# Altium footprint library TERM_3.50MM_2x1_0.PcbLib: 1 footprints
Each footprint in its own frame and in the unit in brackets; x right, y up, seen from the top. Pads: shape width x height; smd on the part's side, far side on the other; paste and mask are expansions set on the pad; w line width, h text height; cw(c..) or ccw(c..) is an arc to the next point about the centre after c.
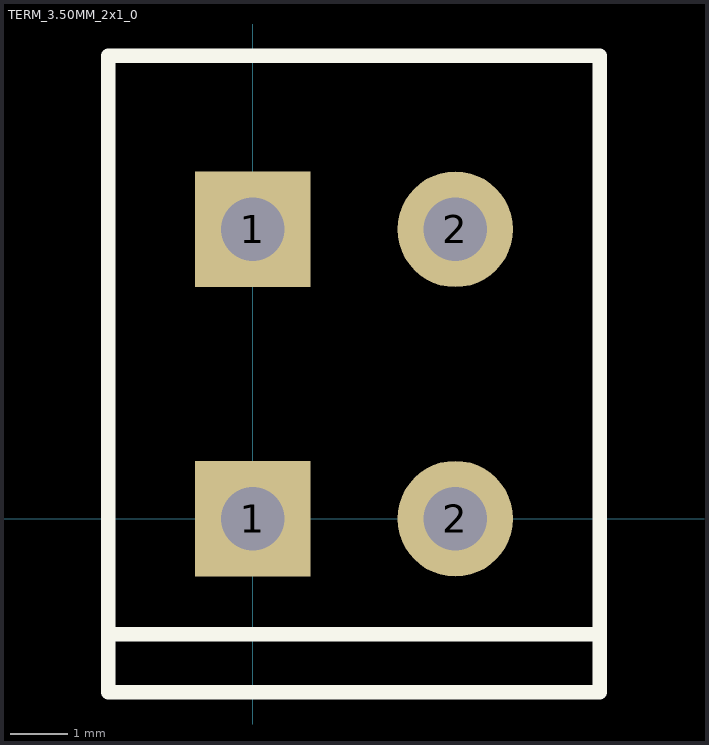
[diagram p0: the footprint, top view; thin cyan lines are the x and y axes]

## TERM_3.50MM_2x1_0 [mm] "Terminal Block, 3.5mm pitch"
pads (4):
  rect 2x2 hole 1.1: 1(0,0) 1(0,5)
  round 2 hole 1.1: 2(3.5,0) 2(3.5,5)
Top Overlay:
  lines w0.254: -2.5,-2 6,-2 ; -2.5,-3 0,-3 6,-3 6,8 -2.5,8 -2.5,-3
3D body "1861933.SLDPRT": height 8.98, standoff -2.6, extent -2.5,-3 6,8